# EAGLE library part AVR_ISP (library 32bits)
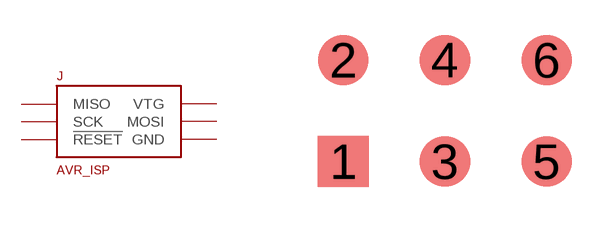
[diagram p12: symbol with the pads of .1-ISP-PADS; footprint .1-ISP-PADS]

Designator prefix J

## AVR_ISP  [.1-ISP-PADS]
1  MISO
2  VTG  pwr
3  SCK
4  MOSI
5  !RESET
6  GND  pwr

## Footprint .1-ISP-PADS (pad centres in mm)
smd 1.27 x 1.27: 1 0,0; 2 0,2.54; 3 2.54,0; 4 2.54,2.54; 5 5.08,0; 6 5.08,2.54